# Altium footprint library CAP.PcbLib: 63 footprints (part 1 of 4)
Each footprint in its own frame and in the unit in brackets; x right, y up, seen from the top. Pads: shape width x height; smd on the part's side, far side on the other; paste and mask are expansions set on the pad; w line width, h text height; cw(c..) or ccw(c..) is an arc to the next point about the centre after c.
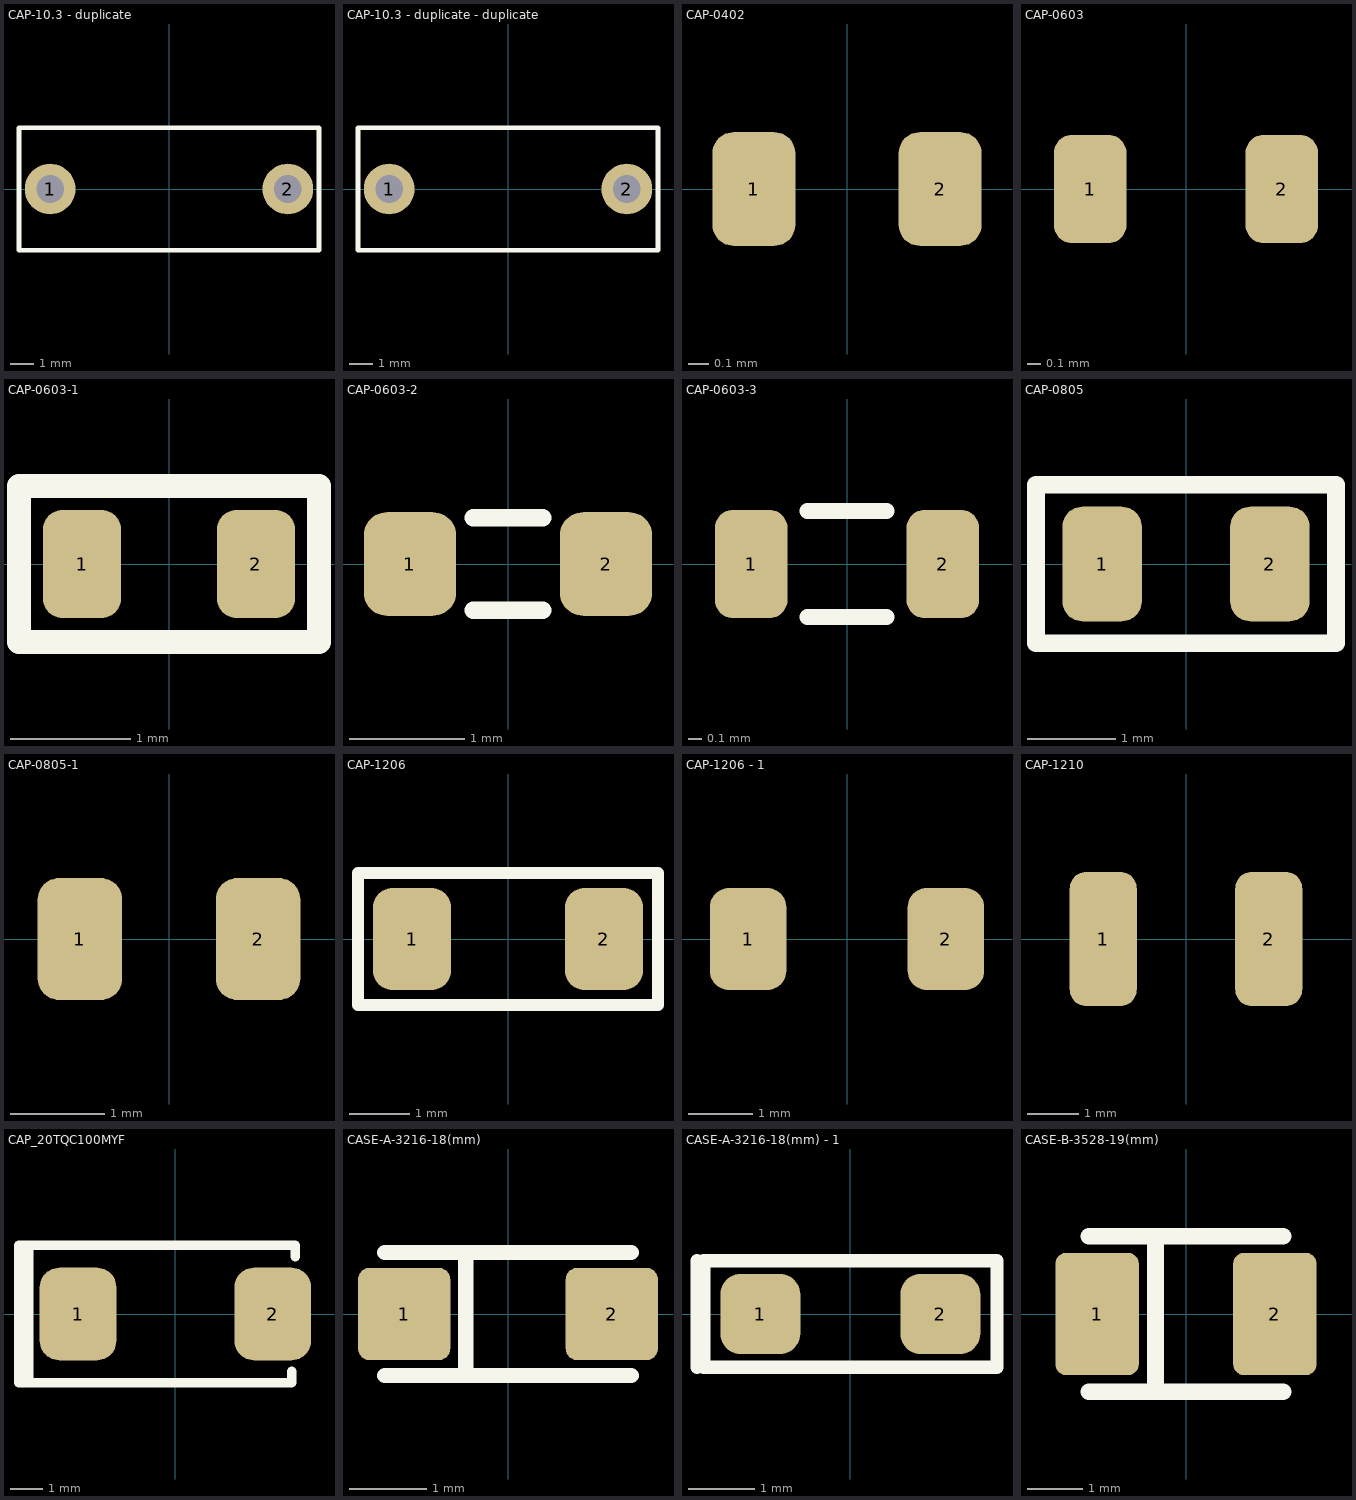
[diagram p0: the footprints below, top view; thin cyan lines are the x and y axes]

## CAP-10.3 - duplicate [mm]
pads (2):
  round 2.2 hole 1.2: 1(-5.15,0) 2(5.15,0)
Top Overlay:
  lines w0.2: -6.5,-2.65 -6.5,2.65 6.5,2.65 6.5,-2.65 -6.5,-2.65
3D:
  lines w0.127: -6.477,-2.65 6.477,-2.65 6.477,2.65 -6.477,2.65 -6.477,-2.65
3D body "ECQE6223KF.step": height 11.5, standoff -19, extent -6,-2.65 6,2.65

## CAP-10.3 - duplicate - duplicate [mm]
pads (2):
  round 2.2 hole 1.2: 1(-5.15,0) 2(5.15,0)
Top Overlay:
  lines w0.2: -6.5,-2.65 -6.5,2.65 6.5,2.65 6.5,-2.65 -6.5,-2.65
3D:
  lines w0.127: -6.477,-2.65 6.477,-2.65 6.477,2.65 -6.477,2.65 -6.477,-2.65
3D body "freecad_film_capacitor.step": height 16, standoff -5, extent -13.4,4.1 4.6,12.1

## CAP-0402 [mm]
height 0.4
pads (2):
  rrect50% 0.4x0.55 smd: 1(-0.45,0) 2(0.45,0)
3D body "step_temp.STEP": height 0.55, standoff 0, extent -0.5,-0.25 0.5,0.25

## CAP-0603 [mm]
pads (2):
  rrect50% 0.55x0.82 smd: 1(-0.725,0) 2(0.725,0)
3D body "C0603.stp": height 0.8, standoff 0, extent -0.8,-0.4 0.8,0.4

## CAP-0603-1 [mm]
pads (2):
  rrect50% 0.65x0.9 smd: 1(-0.725,0) 2(0.725,0)
Top Overlay:
  lines w0.2: -1.25,-0.65 -1.25,0.65 1.25,0.65 1.25,-0.65 -1.25,-0.65
3D body "VJ0603D100KLCAP.STEP": height 0.8, standoff 0, extent -0.8,-0.47 0.8,0.47

## CAP-0603-2 [mm]
pads (2):
  rrect50% 0.8x0.9 smd: 1(-0.85,0) 2(0.85,0)
Top Overlay:
  lines w0.15: -0.3,-0.4 0.3,-0.4 ; -0.3,0.4 0.3,0.4
3D body "C0603.stp": height 0.8, standoff 0, extent -0.8,-0.4 0.8,0.4

## CAP-0603-3 [mm]
pads (2):
  rrect50% 0.55x0.82 smd: 1(-0.725,0) 2(0.725,0)
Top Overlay:
  lines w0.12: -0.3,-0.4 0.3,-0.4 ; -0.3,0.4 0.3,0.4
3D body "C0603.stp": height 0.8, standoff 0, extent -0.8,-0.4 0.8,0.4

## CAP-0805 [mm]
pads (2):
  rrect50% 0.9x1.3 smd: 1(-0.95,0) 2(0.95,0)
Top Overlay:
  lines w0.2: -1.7,-0.9 1.7,-0.9 1.7,0.9 -1.7,0.9 -1.7,-0.9
3D body "step_temp.STEP": height 1.46, standoff 0.01, extent -1,-0.625 1,0.625

## CAP-0805-1 [mm]
pads (2):
  rrect50% 0.9x1.3 smd: 1(-0.95,0) 2(0.95,0)
3D body "step_temp.STEP": height 1.46, standoff 0.01, extent -1,-0.625 1,0.625

## CAP-1206 [mm]
pads (2):
  rrect50% 1.3x1.7 smd: 1(-1.6,0) 2(1.6,0)
Top Overlay:
  lines w0.2: -2.5,-1.1 -2.5,1.1 2.5,1.1 2.5,-1.1 -2.5,-1.1
3D body "C1206D.STEP": height 1.25, standoff 0, extent -1.6,-0.8 1.6,0.8

## CAP-1206 - 1 [mm]
pads (2):
  rrect50% 1.2x1.6 smd: 1(-1.55,0) 2(1.55,0)
3D body "C1206D.STEP": height 1.25, standoff 0, extent -1.6,-0.8 1.6,0.8

## CAP-1210 [mm]
pads (2):
  rrect50% 1.3x2.6 smd: 1(-1.6,0) 2(1.6,0)
3D body "C1210C106K6PAC7800.STEP": height 1.9, standoff 0, extent -1.6,-1.25 1.6,1.25

## CAP_20TQC100MYF [mm]
height 2.8
pads (2):
  rrect50% 2.4x2.9 smd: 1(-3.05,0) 2(3.05,0)
Top Overlay:
  lines w0.3: -4.6,-2.15 -4.6,2.15 ; 3.6,-2.15 3.65,-2.15 ; 3.65,-1.8 3.65,-2.15 ; 3.75,1.8 3.75,2.15 -4.9,2.15 -4.9,-2.15 3.65,-2.15
3D body "step_temp.STEP": height 3, standoff 0, extent -3.65,-2.15 3.65,2.15

## CASE-A-3216-18(mm) [mm]
pads (2):
  rrect25% 1.2x1.2 smd: 1(-1.35,0) 2(1.35,0)
Top Overlay:
  lines w0.2: -1.6,-0.8 1.6,-0.8 ; -1.6,0.8 1.6,0.8 ; -0.55,-0.8 -0.55,0.8
3D body "TAJA105K016RNJ--3DModel-STEP-269445.STEP": height 1.8, standoff 0, extent -1.6,-0.8 1.6,0.8

## CASE-A-3216-18(mm) - 1 [mm]
pads (2):
  rrect50% 1.2x1.2 smd: 1(-1.35,0) 2(1.35,0)
Top Overlay:
  lines w0.2: -2.3,-0.8 -2.3,0.8 ; -2.2,-0.8 -2.2,0.8 2.2,0.8 2.2,-0.8 -2.2,-0.8
3D body "User Library-CAP_TAN_C3216_1206.STEP": height 1.8, standoff 0, extent -1.7,-0.9 1.7,0.9

## CASE-B-3528-19(mm) [mm]
pads (2):
  rrect25% 1.5x2.2 smd mask+0.15: 1(-1.6,0) 2(1.6,0)
Top Overlay:
  lines w0.3: -1.75,-1.4 1.75,-1.4 ; -1.75,1.4 1.75,1.4 ; -0.55,-1.4 -0.55,1.4
3D body "TAJB475K025RNJ--3DModel-STEP-269445.STEP": height 2.1, standoff 0, extent -1.75,-1.4 1.75,1.4